# EAGLE library part ESP-07 (library Deegou-Interface-ICs)
ESP8266 WIFI MODULE CHIP ANT
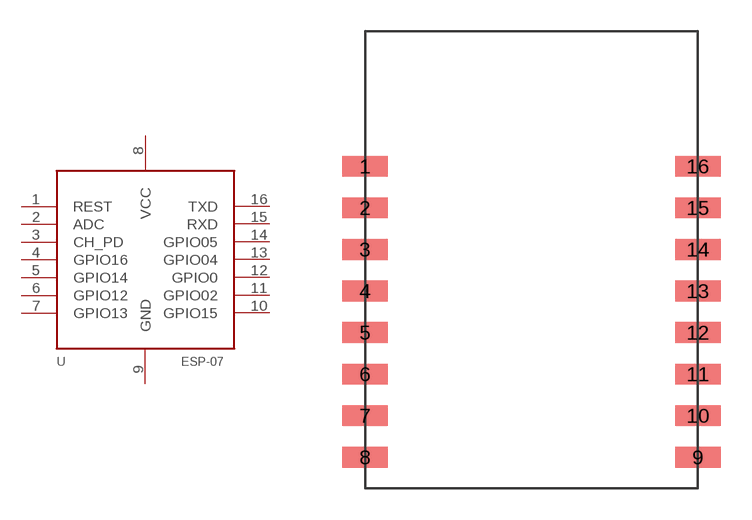
[diagram p3: symbol with the pads of ESP-07; footprint ESP-07]

Designator prefix U

## ESP-07 (MFR: Ai-Thinker; MPN: ESP-07; VALUE: ESP-07)  [ESP-07]
1  REST
2  ADC
3  CH_PD
4  GPIO16
5  GPIO14
6  GPIO12
7  GPIO13
8  VCC
9  GND
10  GPIO15
11  GPIO02
12  GPIO0
13  GPIO04
14  GPIO05
15  RXD
16  TXD

## Footprint ESP-07 (pad centres in mm)
smd 2.2 x 1: 1 -7.62,5.34; 2 -7.62,3.34; 3 -7.62,1.34; 4 -7.62,-0.66; 5 -7.62,-2.66; 6 -7.62,-4.66; 7 -7.62,-6.66; 8 -7.62,-8.66; 9 8.38,-8.66; 10 8.38,-6.66; 11 8.38,-4.66; 12 8.38,-2.66; 13 8.38,-0.66; 14 8.38,1.34; 15 8.38,3.34; 16 8.38,5.34